# Altium schematic symbol library 10uF 1206 tantalum.SchLib: 1 symbol
Pins are listed as number, name and electrical type; pins without a type are passive.

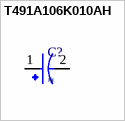
[diagram p0: symbol T491A106K010AH]

## T491A106K010AH
designator C?
10ÂµF Molded Tantalum Capacitors 10V 1206 (3216 Metric) 4Ohm; MP: T491A106K010AH; MF: KEMET; SnapEDA_Link: https://www.snapeda.com/parts/T491A106K010AH/KEMET/view-part/1688640/?ref=snap; Availability: Good; Price: None; Check_prices: https://www.snapeda.com/parts/T491A106K010AH/KEMET/view-part/1688640/?ref=eda; Value: *; Purchase-URL: https://pricing.snapeda.com/search/part/T491A106K010AH/?ref=eda; Package: 1206 KEMET
footprint CAPMP3216X180N
pins: 1, 2